# EAGLE library part PROGRAMMIERSTECKER_SMD (library LW_DUB)
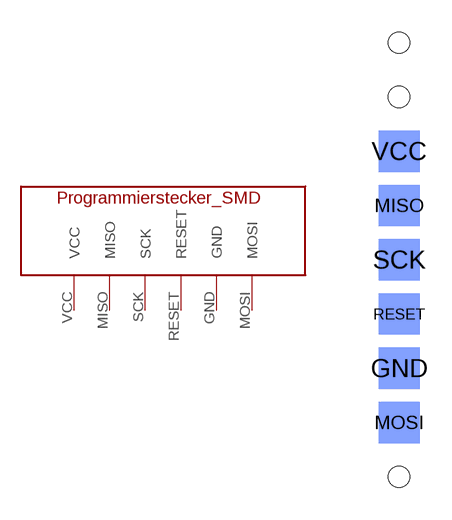
[diagram p4: symbol with the pads of PROGRAMMIERSTECKER_SMD; footprint PROGRAMMIERSTECKER_SMD]

Designator prefix -

## PROGRAMMIERSTECKER_SMD  [PROGRAMMIERSTECKER_SMD]
GND  GND
MISO  MISO
MOSI  MOSI
RESET  RESET
SCK  SCK
VCC  VCC

## Footprint PROGRAMMIERSTECKER_SMD (pad centres in mm)
smd 1.93 x 1.93 bottom: GND 0,-15.24; MISO 0,-7.62; MOSI 0,-17.78; RESET 0,-12.7; SCK 0,-10.16; VCC 0,-5.08
hole 1 at 0,-20.32
hole 1 at 0,-2.54
hole 1 at 0,0